# EAGLE library part LM358M (library IC-Amplifiers)
Low Power Dual Operational Amplifiers Source: Datasheet <http://www.ti.com/general/docs/suppproductinfo.tsp?distId=10&gotoUrl=http://www.ti.com/lit/gpn/lm158-n>
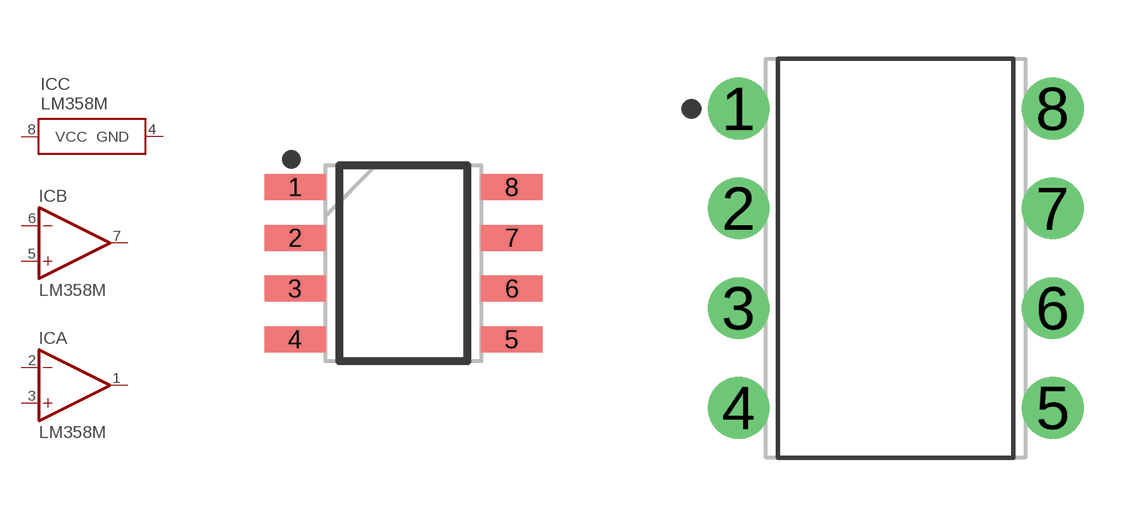
[diagram p0: symbol with the pads of SOIC127P600X175-8N; footprints SOIC127P600X175-8N, DIP8]

Designator prefix IC; gates A=OP-AMP B=OP-AMP C=POWER-CONSORT

## LM358M-SOIC8 (DATASHEET: https://www.ti.com/lit/ds/symlink/lmv358.pdf?HQS=TI-null-null-mousermode-df-pf-null-wwe&ts=1605073807978&ref_url=https%253A%252F%252Fwww.mouser.in%252F; DESCRIPTION: Low Power Dual Operational Amplifiers; DIGIKEY-PART-NUMBER: 296-13455-1-ND; LINK: https://www.digikey.in/product-detail/en/texas-instruments/LMV358IDGKR/296-13455-1-ND/486370; MANUFACTURER: Texas Instruments; MPN: LMV358IDGKR; TECHNOLOGY: value; UNIT-PRICE: value)  [SOIC127P600X175-8N]
1  A:OUT  out
2  A:-IN  in
3  A:+IN  in
4  C:GND  pwr
5  B:+IN  in
6  B:-IN  in
7  B:OUT  out
8  C:VCC  pwr

## LM358M-PDIP8 (DATASHEET: https://www.ti.com/lit/ds/symlink/lm358.pdf?HQS=TI-null-null-digikeymode-df-pf-null-wwe&ts=1605065614482; DIGIKEY-PART-NUMBER: value; LINK: value; MANUFACTURER: value; MPN: value; TECHNOLOGY: value; UNIT-PRICE: value)  [DIP8]
Pads as for SOIC127P600X175-8N

## Footprint SOIC127P600X175-8N (pad centres in mm)
D0008A
smd 1.528 x 0.65: 1 -2.711,1.905; 2 -2.711,0.635; 3 -2.711,-0.635; 4 -2.711,-1.905; 5 2.711,-1.905; 6 2.711,-0.635; 7 2.711,0.635; 8 2.711,1.905

## Footprint DIP8 (pad centres in mm)
drill 0.786 pad 1.572: 1 -4,3.81; 2 -4,1.27; 3 -4,-1.27; 4 -4,-3.81; 5 4,-3.81; 6 4,-1.27; 7 4,1.27; 8 4,3.81